# Altium schematic symbol library Sensor.SchLib: 1 symbol
Pins are listed as number, name and electrical type; pins without a type are passive.

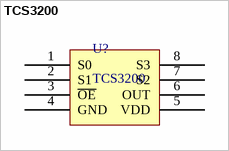
[diagram p0: symbol TCS3200]

## TCS3200
designator U?
footprint TCS3200
pins: 1 S0, 2 S1, 3 ~{OE}, 4 GND, 5 VDD, 6 OUT, 7 S2, 8 S3